# Altium footprint library Connector_AMASS.PcbLib: 13 footprints
Each footprint in its own frame and in the unit in brackets; x right, y up, seen from the top. Pads: shape width x height; smd on the part's side, far side on the other; paste and mask are expansions set on the pad; w line width, h text height; cw(c..) or ccw(c..) is an arc to the next point about the centre after c.
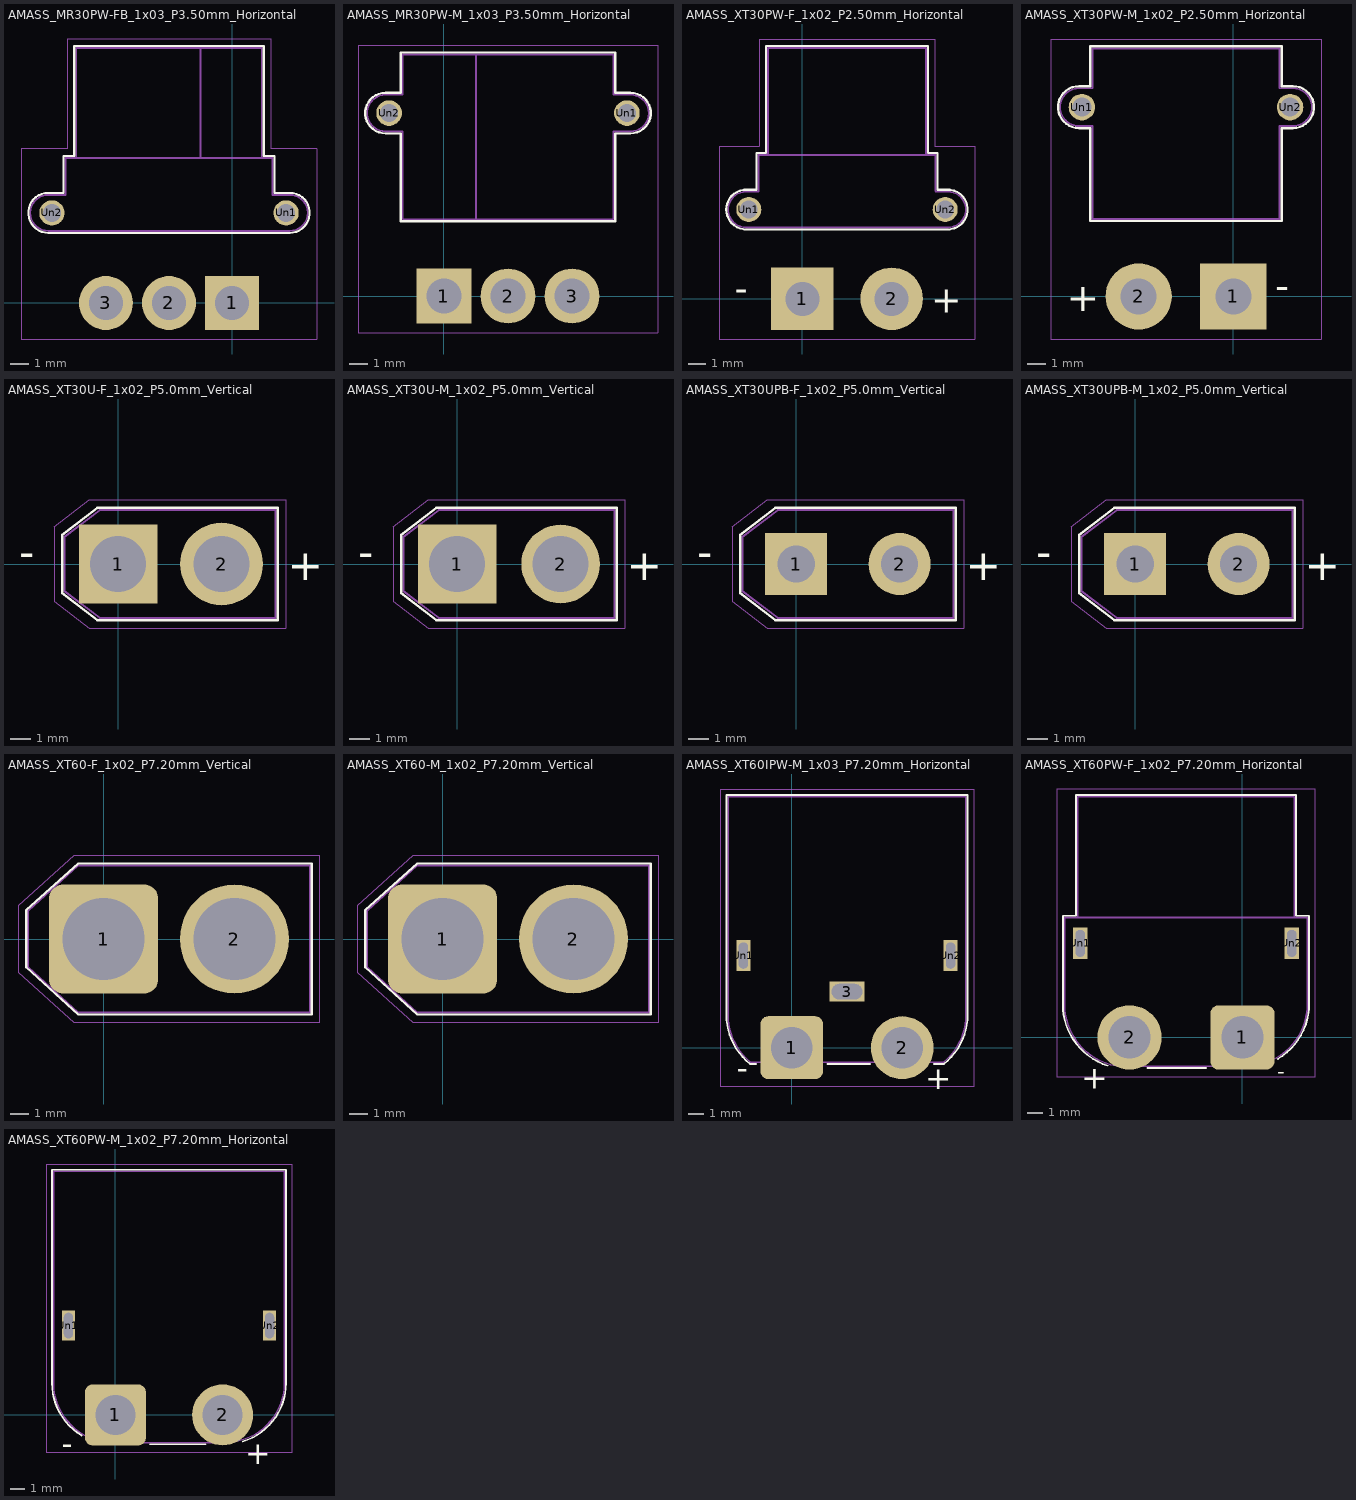
[diagram p0: the footprints below, top view; thin cyan lines are the x and y axes]

## AMASS_MR30PW-FB_1x03_P3.50mm_Horizontal [mm]
pads (5):
  rect 3x3 hole 1.9: 1(0,0)
  round 3 hole 1.9: 2(-3.5,0) 3(-7,0)
  round 1.4 hole 1: Un1(3,5) Un2(-10,5)
F.SilkS:
  lines w0.12: -10.2,3.89 3.2,3.89 ccw(c3.2,5) 3.2,6.11 2.36,6.11 2.36,8.16 1.76,8.16 1.76,14.26 -8.76,14.26 -8.76,8.16 -9.36,8.16 -9.36,6.11 -10.2,6.11 ccw(c-10.2,5) -10.2,3.89
F.CrtYd:
  lines w0.05: -11.7,-2 4.7,-2 4.7,8.55 2.15,8.55 2.15,14.65 -9.15,14.65 -9.15,8.55 -11.7,8.55 -11.7,-2
F.Fab:
  lines w0.1: -9.25,6 -10.2,6 ccw(c-10.2,5) -10.2,4 3.2,4 ccw(c3.2,5) 3.2,6 2.255,6 ; -9.25,6.05 -9.25,8.05 2.25,8.05 2.25,6 ; -8.65,8.05 -8.65,14.15 1.65,14.15 1.65,8.05 ; -1.75,8.05 -1.75,14.15
  text "'.Designator'" at -7.547,1.86 h1

## AMASS_MR30PW-M_1x03_P3.50mm_Horizontal [mm]
pads (5):
  rect 3x3 hole 1.9: 1(0,0)
  round 3 hole 1.9: 2(3.5,0) 3(7,0)
  round 1.4 hole 1: Un1(10,10) Un2(-3,10)
F.SilkS:
  lines w0.12: -3.2,8.89 -2.36,8.89 -2.36,4.09 9.36,4.09 9.36,8.89 10.2,8.89 ccw(c10.2,10) 10.2,11.11 9.36,11.11 9.36,13.31 -2.36,13.31 -2.36,11.11 -3.2,11.11 ccw(c-3.2,10) -3.2,8.89
F.CrtYd:
  lines w0.05: -4.7,-2 11.7,-2 11.7,13.7 -4.7,13.7 -4.7,-2
F.Fab:
  lines w0.1: 1.75,4.2 1.75,13.2 ; -3.2,9 -2.25,9 -2.25,4.2 9.25,4.2 9.25,9 10.2,9 ccw(c10.2,10) 10.2,11 9.25,11 9.25,13.2 -2.25,13.2 -2.25,11 -3.2,11 ccw(c-3.2,10) -3.2,9
  text "'.Designator'" at -0.547,1.86 h1

## AMASS_XT30PW-F_1x02_P2.50mm_Horizontal [mm]
pads (4):
  rect 3.5x3.5 hole 1.9: 1(0,0)
  round 3.5 hole 1.9: 2(5,0)
  round 1.4 hole 1: Un1(-3,5) Un2(8,5)
F.SilkS:
  lines w0.12: -3.322,3.903 cw(c-3.15,5) -3.15,6.11 ; -3.26,3.89 8.26,3.89 ; -3.26,6.11 -2.56,6.11 -2.56,8.16 -2.03,8.16 -2.03,14.16 7,14.16 ; 7.03,14.16 7.03,8.16 7.56,8.16 7.56,6.11 8.26,6.11 ; 8.15,3.89 ccw(c8.15,5) 8.15,6.11
  text "+" at 7.207,-0.793 h1.5
  text "-" at -3.793,-0.15 h1.5
F.CrtYd:
  lines w0.05: -4.65,-2.25 9.65,-2.25 9.65,8.55 7.42,8.55 7.42,14.55 -2.42,14.55 -2.42,8.55 -4.65,8.55 -4.65,-2.25
F.Fab:
  lines w0.1: -1.92,8.05 -1.92,14.05 6.92,14.05 6.92,8.05 ; 7.45,6 8.15,6 cw(c8.15,5) 8.15,4 -3.15,4 cw(c-3.15,5) -3.15,6 -2.45,6 -2.45,8.05 7.45,8.05 7.45,6.05
  text "'.Designator'" at -1.547,2.16 h1

## AMASS_XT30PW-M_1x02_P2.50mm_Horizontal [mm]
pads (4):
  rect 3.5x3.5 hole 1.9: 1(0,0)
  round 3.5 hole 1.9: 2(-5,0)
  round 1.4 hole 1: Un1(-8,10) Un2(3,10)
F.SilkS:
  lines w0.12: -8.15,8.89 -7.56,8.89 -7.56,3.99 2.56,3.99 2.56,8.89 3.15,8.89 ccw(c3.15,10) 3.15,11.11 2.56,11.11 2.56,13.21 -7.56,13.21 -7.56,11.11 -8.15,11.11 ccw(c-8.15,10) -8.15,8.89
  text "-" at 2.207,-0.15 h1.5
  text "+" at -8.793,-0.793 h1.5
F.CrtYd:
  lines w0.05: -9.65,-2.25 4.65,-2.25 4.65,13.6 -9.65,13.6 -9.65,-2.25
F.Fab:
  lines w0.1: -8.15,9 -7.45,9 -7.45,4.1 2.45,4.1 2.45,9 3.15,9 ccw(c3.15,10) 3.15,11 2.45,11 2.45,13.1 -7.45,13.1 -7.45,11 -8.15,11 ccw(c-8.15,10) -8.15,9
  text "'.Designator'" at -6.547,2.16 h1

## AMASS_XT30U-F_1x02_P5.0mm_Vertical [mm]
pads (2):
  rect 3.8x3.8 hole 2.7: 1(0,0)
  round 4 hole 2.7: 2(5,0)
F.SilkS:
  lines w0.12: -2.71,-1.41 -1.01,-2.71 7.71,-2.71 7.71,2.71 -1.01,2.71 -2.71,1.41 -2.71,-1.41
  text "+" at 8.207,-0.793 h1.5
  text "-" at -4.793,-0.15 h1.5
F.CrtYd:
  lines w0.05: -3.1,-1.8 -3.1,1.8 -1.4,3.1 8.1,3.1 8.1,-3.1 -1.4,-3.1 -3.1,-1.8
F.Fab:
  lines w0.1: -2.6,-1.3 -2.6,1.3 -0.9,2.6 7.6,2.6 7.6,-2.6 -0.9,-2.6 -2.6,-1.3
  text "'.Designator'" at -1.547,-0.84 h1

## AMASS_XT30U-M_1x02_P5.0mm_Vertical [mm]
pads (2):
  rect 3.8x3.8 hole 2.7: 1(0,0)
  round 3.8 hole 2.7: 2(5,0)
F.SilkS:
  lines w0.12: -2.71,-1.41 -2.71,1.41 -1.01,2.71 7.71,2.71 7.71,-2.71 -1.01,-2.71 -2.71,-1.41
  text "+" at 8.207,-0.793 h1.5
  text "-" at -4.793,-0.15 h1.5
F.CrtYd:
  lines w0.05: -3.1,-1.8 -1.4,-3.1 8.1,-3.1 8.1,3.1 -1.4,3.1 -3.1,1.8 -3.1,-1.8
F.Fab:
  lines w0.1: -2.6,-1.3 -0.9,-2.6 7.6,-2.6 7.6,2.6 -0.9,2.6 -2.6,1.3 -2.6,-1.3
  text "'.Designator'" at -1.547,-0.84 h1

## AMASS_XT30UPB-F_1x02_P5.0mm_Vertical [mm]
pads (2):
  rect 3x3 hole 1.8: 1(0,0)
  round 3 hole 1.8: 2(5,0)
F.SilkS:
  lines w0.12: -2.71,-1.41 -2.71,1.41 -1.01,2.71 7.71,2.71 7.71,-2.71 -1.01,-2.71 -2.71,-1.41
  text "-" at -4.793,-0.15 h1.5
  text "+" at 8.207,-0.793 h1.5
F.CrtYd:
  lines w0.05: -3.1,-1.8 -1.4,-3.1 8.1,-3.1 8.1,3.1 -1.4,3.1 -3.1,1.8 -3.1,-1.8
F.Fab:
  lines w0.1: -2.6,-1.3 -2.6,1.3 -0.9,2.6 7.6,2.6 7.6,-2.6 -0.9,-2.6 -2.6,-1.3
  text "'.Designator'" at -1.547,-0.84 h1

## AMASS_XT30UPB-M_1x02_P5.0mm_Vertical [mm]
pads (2):
  rect 3x3 hole 1.8: 1(0,0)
  round 3 hole 1.8: 2(5,0)
F.SilkS:
  lines w0.12: -2.71,-1.41 -1.01,-2.71 7.71,-2.71 7.71,2.71 -1.01,2.71 -2.71,1.41 -2.71,-1.41
  text "-" at -4.793,-0.15 h1.5
  text "+" at 8.207,-0.793 h1.5
F.CrtYd:
  lines w0.05: -3.1,-1.8 -3.1,1.8 -1.4,3.1 8.1,3.1 8.1,-3.1 -1.4,-3.1 -3.1,-1.8
F.Fab:
  lines w0.1: -2.6,-1.3 -0.9,-2.6 7.6,-2.6 7.6,2.6 -0.9,2.6 -2.6,1.3 -2.6,-1.3
  text "'.Designator'" at -1.547,-0.84 h1

## AMASS_XT60-F_1x02_P7.20mm_Vertical [mm]
pads (2):
  rrect25% 6x6 hole 4.5: 1(0,0)
  round 6 hole 4.5: 2(7.2,0)
F.SilkS:
  lines w0.12: -4.25,-1.55 -1.4,-4.15 11.45,-4.15 11.45,4.15 -1.4,4.15 -4.25,1.6 -4.25,-1.55
F.CrtYd:
  lines w0.05: -4.65,-1.85 -4.65,1.85 -1.6,4.6 11.85,4.6 11.85,-4.6 -1.6,-4.6 -4.65,-1.85
F.Fab:
  lines w0.12: -4.15,-1.55 -1.4,-4.05 11.35,-4.05 11.35,4.05 -1.4,4.05 -4.15,1.55 -4.15,-1.55
  text "'.Designator'" at -0.447,-0.89 h1

## AMASS_XT60-M_1x02_P7.20mm_Vertical [mm]
pads (2):
  rrect25% 6x6 hole 4.5: 1(0,0)
  round 6 hole 4.5: 2(7.2,0)
F.SilkS:
  lines w0.12: -4.25,-1.55 -1.4,-4.15 11.45,-4.15 11.45,4.15 -1.4,4.15 -4.25,1.6 -4.25,-1.55
F.CrtYd:
  lines w0.05: -4.65,-1.85 -1.6,-4.6 11.85,-4.6 11.85,4.6 -1.6,4.6 -4.65,1.85 -4.65,-1.85
F.Fab:
  lines w0.12: -4.15,-1.55 -4.15,1.55 -1.4,4.05 11.35,4.05 11.35,-4.05 -1.4,-4.05 -4.15,-1.55
  text "'.Designator'" at -0.447,-0.89 h1

## AMASS_XT60IPW-M_1x03_P7.20mm_Horizontal [mm]
pads (5):
  rrect25% 4.1x4.1 hole 2.7: 1(0,0)
  round 4.1 hole 2.7: 2(7.2,0)
  rect 2.3x1.3 hole 1 slot 2 at 0 deg: 3(3.6,3.65)
  rect 0.9x2 hole 1.7 slot 0.6 at 0 deg: Un1(-3.15,6) Un2(10.35,6)
F.SilkS:
  lines w0.12: -2.719,-1.058 cw(c-0.15,2.15) -4.26,2.15 -4.26,16.46 11.46,16.46 11.46,2.15 cw(c7.35,2.15) 9.92,-1.058 ; -2.71,-1.06 -2.31,-1.06 ; 2.31,-1.06 5.1,-1.06 ; 9.25,-1.06 9.92,-1.06
  text "+" at 8.707,-2.693 h1.5
  text "-" at -3.593,-2.05 h1.5
F.CrtYd:
  lines w0.05: -4.65,-2.55 11.85,-2.55 11.85,16.85 -4.65,16.85 -4.65,-2.55
F.Fab:
  lines w0.1: -2.678,-0.95 cw(c-0.15,2.15) -4.15,2.15 -4.15,16.35 11.35,16.35 11.35,2.15 cw(c7.35,2.15) 9.878,-0.95 ; -2.67,-0.95 9.88,-0.95
  text "'.Designator'" at -0.447,10.16 h1

## AMASS_XT60PW-F_1x02_P7.20mm_Horizontal [mm]
pads (4):
  rrect25% 4.1x4.1 hole 2.7: 1(0,0)
  round 4.1 hole 2.7: 2(-7.2,0)
  rect 0.9x2 hole 1.7 slot 0.6 at 0 deg: Un1(-10.35,6) Un2(3.15,6)
F.SilkS:
  lines w0.12: -8.59,-1.809 cw(c-7.35,2.11) -11.46,2.15 -11.46,7.76 -10.61,7.76 -10.61,15.46 3.41,15.46 3.41,7.76 4.26,7.76 4.26,2.15 cw(c0.15,2.15) 2.267,-1.373 ; -6.05,-1.96 -2.31,-1.96
  text "-" at 2.222,-2.65 h1
  text "+" at -10.293,-3.293 h1.5
F.CrtYd:
  lines w0.05: -11.85,-2.55 -11.85,15.85 4.65,15.85 4.65,-2.55 -11.85,-2.55
F.Fab:
  lines w0.1: -10.5,7.65 -10.5,15.35 3.3,15.35 3.3,7.65 ; -7.385,-1.885 cw(c-7.35,2.115) -11.35,2.15 -11.35,7.65 4.15,7.65 4.15,2.15 cw(c0.15,2.15) 0.15,-1.85 -7.35,-1.85
  text "'.Designator'" at -7.647,2.76 h1

## AMASS_XT60PW-M_1x02_P7.20mm_Horizontal [mm]
pads (4):
  rrect25% 4.1x4.1 hole 2.7: 1(0,0)
  round 4.1 hole 2.7: 2(7.2,0)
  rect 0.9x2 hole 1.7 slot 0.6 at 0 deg: Un1(-3.15,6) Un2(10.35,6)
F.SilkS:
  lines w0.12: -2.267,-1.373 cw(c-0.15,2.15) -4.26,2.15 -4.26,16.46 11.46,16.46 11.46,2.15 cw(c7.35,2.15) 8.552,-1.78 ; 2.31,-1.96 6.05,-1.96
  text "-" at -3.593,-2.65 h1.5
  text "+" at 8.707,-3.293 h1.5
F.CrtYd:
  lines w0.05: -4.65,-2.55 11.85,-2.55 11.85,16.85 -4.65,16.85 -4.65,-2.55
F.Fab:
  lines w0.1: -4.15,2.15 -4.15,16.35 11.35,16.35 11.35,2.15 cw(c7.35,2.15) 7.35,-1.85 -0.15,-1.85 cw(c-0.15,2.15) -4.15,2.15
  text "'.Designator'" at -0.447,2.76 h1